# Altium footprint library Custom.PcbLib: 47 footprints (part 1 of 3)
Each footprint in its own frame and in the unit in brackets; x right, y up, seen from the top. Pads: shape width x height; smd on the part's side, far side on the other; paste and mask are expansions set on the pad; w line width, h text height; cw(c..) or ccw(c..) is an arc to the next point about the centre after c.
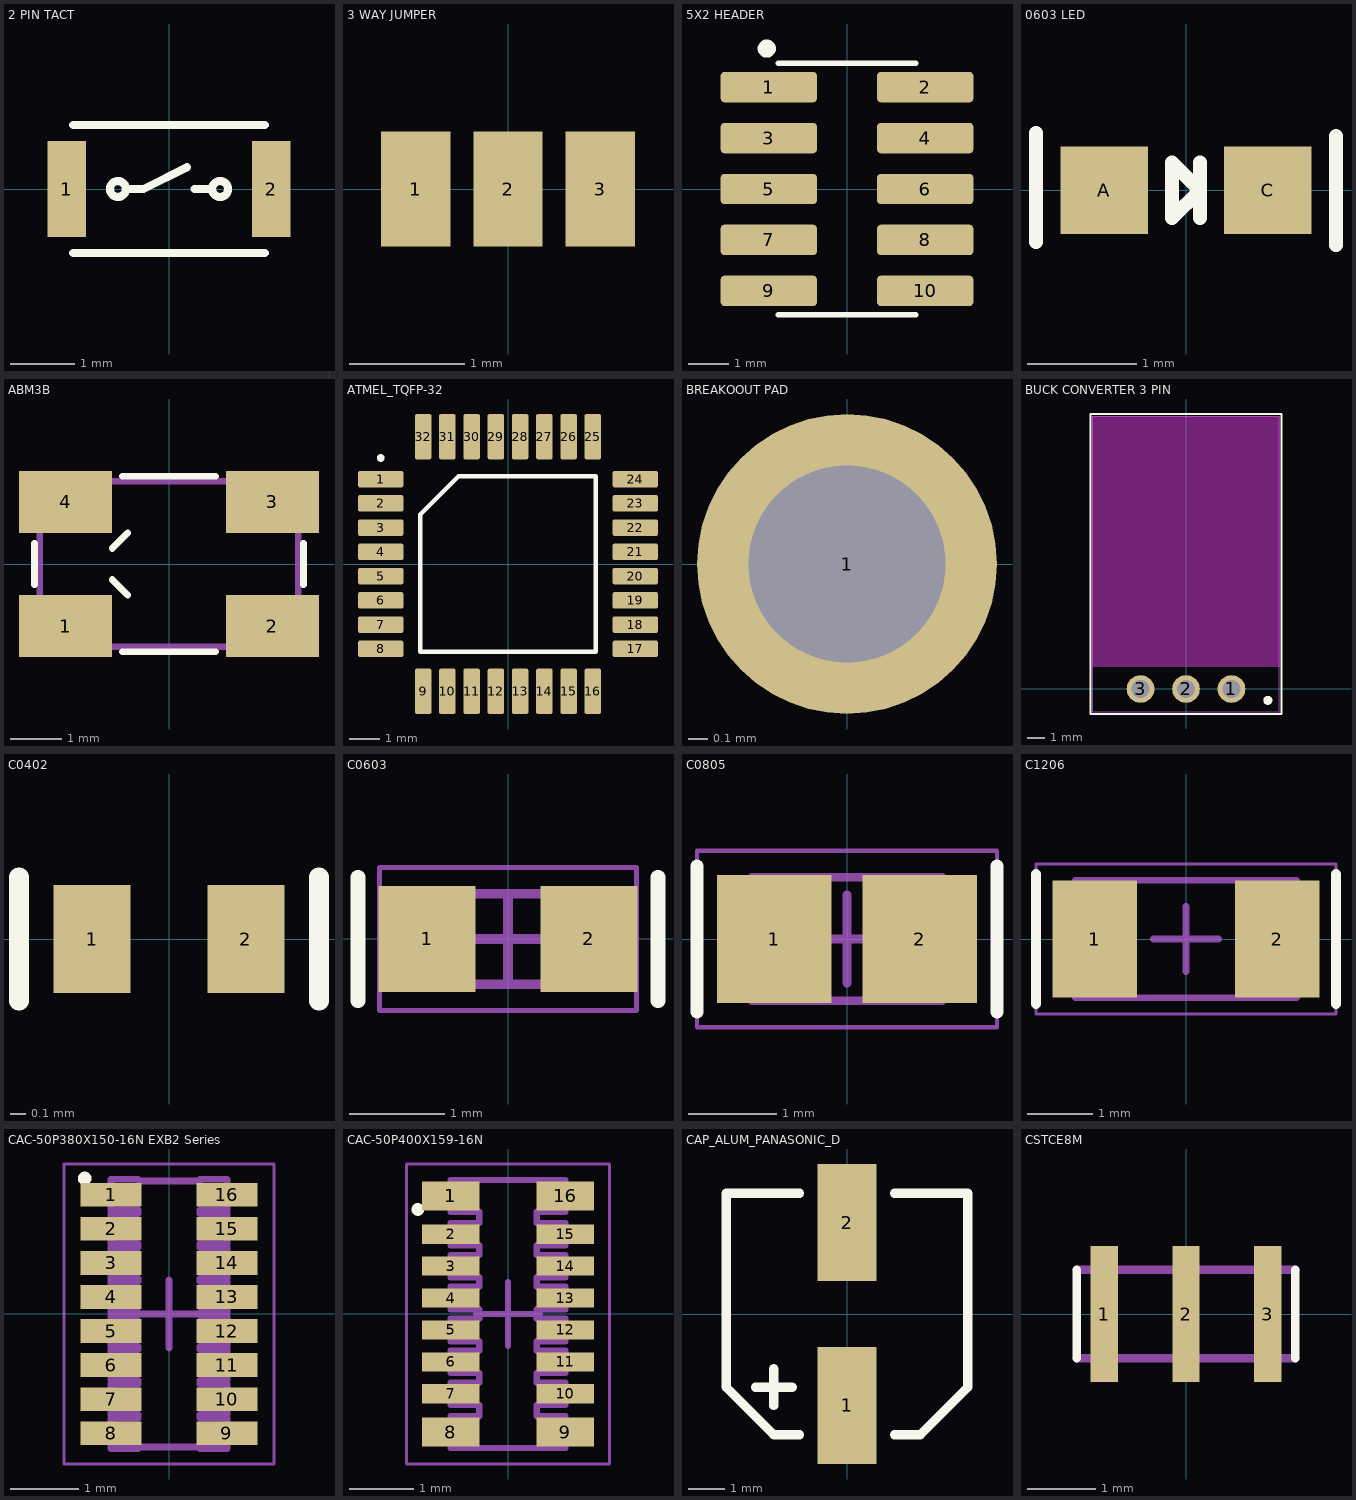
[diagram p0: the footprints below, top view; thin cyan lines are the x and y axes]

## 2 PIN TACT [mm] "KXT Series 2 Pin Tactile Switch"
height 0.58
pads (2):
  rect 0.6x1.5 smd: 1(-1.6,0) 2(1.6,0)
Top Overlay:
  circle w0.127: c0.8,0 r0.125
  circle w0.127: c-0.8,0 r0.125
  lines w0.127: -1.5,-1 1.5,-1 ; -1.5,1 1.5,1 ; -0.675,0 -0.4,0 0.28,0.34 ; 0.4,0 0.675,0

## 3 WAY JUMPER [mm] "3 Way solder bridge jumper"
pads (3):
  rect 0.6x1 smd: 1(-0.8,0) 2(0,0) 3(0.8,0)

## 5X2 HEADER [mm] "10 Position 5x2 1.27mm Pitch Male Header"
height 5.71
pads (10):
  rrect25% 2.4x0.76 smd: 1(-1.95,2.54) 2(1.95,2.54) 3(-1.95,1.27) 4(1.95,1.27) 5(-1.95,0) 6(1.95,0) 7(-1.95,-1.27) 8(1.95,-1.27) 9(-1.95,-2.54) 10(1.95,-2.54)
Top Overlay:
  circle w0.254: c-2,3.5 r0.1
  lines w0.127: -1.715,-3.135 1.715,-3.135 ; -1.715,3.135 1.715,3.135
3D body "60462.stp": height 4.67, standoff -0.01, extent -2.75,-3.175 2.75,3.175

## 0603 LED [mm] "LTST-C191KGKT SMD LED 0603 Footprint"
height 0.55
pads (2):
  rect 0.8x0.8 smd: A(-0.75,0) C(0.75,0)
Top Overlay:
  lines w0.127: -1.375,-0.475 -1.375,0.525 ; 0.127,-0.254 0.127,0.254 ; 1.375,-0.5 1.375,0.5 ; -0.127,-0.254 0.127,0 -0.127,0.254 -0.127,-0.254
3D body "User Library-LED_0603_WS.STEP": height 0.6, standoff 0, extent -0.8,-0.4 0.8,0.4

## ABM3B [mm] "4-SMD, No Lead (DFN, LCC)"
height 1.1
pads (4):
  rect 1.8x1.2 smd: 1(-2,-1.2) 2(2,-1.2) 3(2,1.2) 4(-2,1.2)
Top Overlay:
  lines w0.127: -2.6,-0.4 -2.6,0.4 ; -1.1,-0.3 -0.8,-0.6 ; -1.1,0.3 -0.8,0.6 ; -0.9,-1.7 0.9,-1.7 ; -0.9,1.7 0.9,1.7 ; 2.6,-0.4 2.6,0.4
Mechanical 13:
  lines w0.127: -2.5,-1.6 -2.5,1.6 2.5,1.6 2.5,-1.6 -2.5,-1.6
3D body "ABM3B.STEP": height 1.1, standoff -0.01, extent -2.5,-1.587 2.5,1.588

## ATMEL_TQFP-32 [mm]
pads (32):
  rrect25% 1.5x0.55 smd: 1(-4.2,2.8) 2(-4.2,2) 3(-4.2,1.2) 4(-4.2,0.4) 5(-4.2,-0.4) 6(-4.2,-1.2) 7(-4.2,-2) 8(-4.2,-2.8) 17(4.2,-2.8) 18(4.2,-2) 19(4.2,-1.2) 20(4.2,-0.4) 21(4.2,0.4) 22(4.2,1.2) 23(4.2,2) 24(4.2,2.8)
  rrect25% 0.55x1.5 smd: 9(-2.8,-4.2) 10(-2,-4.2) 11(-1.2,-4.2) 12(-0.4,-4.2) 13(0.4,-4.2) 14(1.2,-4.2) 15(2,-4.2) 16(2.8,-4.2) 25(2.8,4.2) 26(2,4.2) 27(1.2,4.2) 28(0.4,4.2) 29(-0.4,4.2) 30(-1.2,4.2) 31(-2,4.2) 32(-2.8,4.2)
Top Overlay:
  circle w0.254: c-4.2,3.5 r0
  lines w0.152: -2.891,-2.891 2.891,-2.891 ; -2.891,-2.891 -2.891,1.634 -1.634,2.891 2.891,2.891 ; 2.891,-2.891 2.891,2.891
3D body "User Library-tqfp32-0_8.step": height 1.2, standoff 0, extent -4.6,-4.599 4.599,4.6

## BREAKOOUT PAD [mil] "Simple 40mil breakout pad"
pads (1):
  round 61 hole 40: 1(0,0)

## BUCK CONVERTER 3 PIN [mil] "Murata OKI-78SR Series DC/DC Converter Regulator"
height 30
pads (3):
  round 61 hole 40: 1(100,0) 2(0,0) 3(-100,0)
Top Overlay:
  circle w10: c180,-25 r5
  lines w5: -210,-55 210,-55 210,605 -210,605 -210,-55
Keep-Out Layer:
  region: -206.69,600.39 206.69,600.39 206.69,49.21 -206.69,49.21
Mechanical 13:
  lines w2: -205,-50 -205,600 205,600 205,-50 -205,-50
3D body "User Library-OKI-78SR_Oriz.STEP": height 317.91, standoff -169.29, extent -204.73,-49.21 204.72,600.4

## C0402 [mm] "Ceramic capacitor 0402 imperial"
pads (2):
  rect 0.5x0.7 smd: 1(-0.5,0) 2(0.5,0)
Top Overlay:
  lines w0.127: -0.975,-0.4 -0.975,0.4 ; 0.975,-0.4 0.975,0.4
3D body "User Library-Capacitor 0402.step": height 0.49, standoff -0.01, extent -0.5,-0.25 0.5,0.25

## C0603 [mil] "Yageo Class 2 X7R 0603 0.8mm Ceramic Capacitor"
height 31.5
pads (2):
  rect 40x44 smd: 1(-33.46,0) 2(33.46,0)
Top Overlay:
  lines w6: -62.01,-25.59 -62.01,25.59 ; 62.01,-25.59 62.01,25.59
Mechanical 13:
  lines w3.94: -34.45,-18.7 -34.45,18.7 34.45,18.7 34.45,-18.7 -34.45,-18.7
Mechanical 15:
  lines w1.97: -53.15,-29.53 -53.15,29.53 53.15,29.53 53.15,-29.53 -53.15,-29.53
  lines w3.94: -18.7,0 18.7,0 ; 0,-18.7 0,18.7
3D body "User Library-CAPC1608X09.step": height 35.43, standoff 0, extent -31.49,-15.74 31.5,15.75

## C0805 [mm] "Yageo Class 2 X7R 0805 1.25mm Ceramic Capacitor"
height 1.25
pads (2):
  rect 1.3x1.45 smd: 1(-0.825,0) 2(0.825,0)
Top Overlay:
  lines w0.152: -1.7,-0.825 -1.7,0.825 ; 1.7,-0.825 1.7,0.825
Mechanical 13:
  lines w0.1: -1.075,-0.7 1.075,-0.7 1.075,0.7 -1.075,0.7 -1.075,-0.7
Mechanical 15:
  lines w0.05: -1.7,-1 1.7,-1 1.7,1 -1.7,1 -1.7,-1
  lines w0.1: -0.5,0 0.5,0 ; 0,-0.5 0,0.5
3D body "User Library-cap_0805-1.step": height 1.2, standoff 0, extent -1,-0.6 1,0.6

## C1206 [mm] "1206 Package Size Ceramic Capacitor"
height 1.8
pads (2):
  rect 1.3x1.8 smd: 1(-1.4,0) 2(1.4,0)
Top Overlay:
  lines w0.152: -2.3,-1 -2.3,1 ; 2.3,-1 2.3,1
Mechanical 13:
  lines w0.1: -1.7,-0.9 1.7,-0.9 1.7,0.9 -1.7,0.9 -1.7,-0.9
Mechanical 15:
  lines w0.05: -2.3,-1.15 2.3,-1.15 2.3,1.15 -2.3,1.15 -2.3,-1.15
  lines w0.1: -0.5,0 0.5,0 ; 0,-0.5 0,0.5
3D body: height 1.8, standoff 0, extent 1.2,-0.9 1.7,0.9
3D body: height 1.8, standoff 0, extent -1.7,-0.9 -1.2,0.9
3D body: height 1.8, standoff 0, extent -1.2,-0.9 1.2,0.9

## CAC-50P380X150-16N EXB2 Series [mm] "Chip Array, ConvexE, 16-Leads, Pitch 0.50mm,  Body 3.80x1.50mm,  IPC Medium Density"
height 0.6
pads (16):
  rect 0.9x0.35 smd: 1(-0.85,1.75) 2(-0.85,1.25) 3(-0.85,0.75) 4(-0.85,0.25) 5(-0.85,-0.25) 6(-0.85,-0.75) 7(-0.85,-1.25) 8(-0.85,-1.75) 9(0.85,-1.75) 10(0.85,-1.25) 11(0.85,-0.75) 12(0.85,-0.25) 13(0.85,0.25) 14(0.85,0.75) 15(0.85,1.25) 16(0.85,1.75)
Top Overlay:
  circle w0.1: c-1.237,1.988 r0.05
Mechanical 13:
  lines w0.1: -0.85,-1.975 -0.45,-1.975 -0.45,-1.95 0.45,-1.95 0.45,-1.975 0.85,-1.975 0.85,-1.525 0.45,-1.525 0.45,-1.475 0.85,-1.475 0.85,-1.025 0.45,-1.025 0.45,-0.975 0.85,-0.975 0.85,-0.525 0.45,-0.525 0.45,-0.475 0.85,-0.475 0.85,-0.025 0.45,-0.025 0.45,0.025 0.85,0.025 0.85,0.475 0.45,0.475 0.45,0.525 0.85,0.525 0.85,0.975 0.45,0.975 0.45,1.025 0.85,1.025 0.85,1.475 0.45,1.475 0.45,1.525 0.85,1.525 0.85,1.975 0.45,1.975 0.45,1.95 -0.45,1.95 -0.45,1.975 -0.85,1.975 -0.85,1.525 -0.45,1.525 -0.45,1.475 -0.85,1.475 -0.85,1.025 -0.45,1.025 -0.45,0.975 -0.85,0.975 -0.85,0.525 -0.45,0.525 -0.45,0.475 -0.85,0.475 -0.85,0.025 -0.45,0.025 -0.45,-0.025 -0.85,-0.025 -0.85,-0.475 -0.45,-0.475 -0.45,-0.525 -0.85,-0.525 -0.85,-0.975 -0.45,-0.975 -0.45,-1.025 -0.85,-1.025 -0.85,-1.475 -0.45,-1.475 -0.45,-1.525 -0.85,-1.525 -0.85,-1.975
Mechanical 15:
  lines w0.05: -1.54,-2.2 1.54,-2.2 1.54,2.2 -1.54,2.2 -1.54,-2.2
  lines w0.1: -0.5,0 0.5,0 ; 0,-0.5 0,0.5
3D body "User Library-YC248-1.STEP": height 0.45, standoff 0, extent -0.8,-2 0.8,2

## CAC-50P400X159-16N [mm] "YC248 Series Chip Array, 16-Leads, Pitch 0.50mm,  Body 4.00x1.60mm,  IPC Medium Density"
height 0.55
pads (16):
  rect 0.9x0.45 smd: 1(-0.9,1.85) 8(-0.9,-1.85) 9(0.9,-1.85) 16(0.9,1.85)
  rect 0.9x0.3 smd: 2(-0.9,1.25) 3(-0.9,0.75) 4(-0.9,0.25) 5(-0.9,-0.25) 6(-0.9,-0.75) 7(-0.9,-1.25) 10(0.9,-1.25) 11(0.9,-0.75) 12(0.9,-0.25) 13(0.9,0.25) 14(0.9,0.75) 15(0.9,1.25)
Top Overlay:
  circle w0.1: c-1.412,1.638 r0.05
Mechanical 13:
  lines w0.1: -0.9,-2.1 -0.9,-1.6 -0.45,-1.6 -0.45,-1.425 -0.9,-1.425 -0.9,-1.075 -0.45,-1.075 -0.45,-0.925 -0.9,-0.925 -0.9,-0.575 -0.45,-0.575 -0.45,-0.425 -0.9,-0.425 -0.9,-0.075 -0.45,-0.075 -0.45,0.075 -0.9,0.075 -0.9,0.425 -0.45,0.425 -0.45,0.575 -0.9,0.575 -0.9,0.925 -0.45,0.925 -0.45,1.075 -0.9,1.075 -0.9,1.425 -0.45,1.425 -0.45,1.6 -0.9,1.6 -0.9,2.1 0.9,2.1 0.9,1.6 0.45,1.6 0.45,1.425 0.9,1.425 0.9,1.075 0.45,1.075 0.45,0.925 0.9,0.925 0.9,0.575 0.45,0.575 0.45,0.425 0.9,0.425 0.9,0.075 0.45,0.075 0.45,-0.075 0.9,-0.075 0.9,-0.425 0.45,-0.425 0.45,-0.575 0.9,-0.575 0.9,-0.925 0.45,-0.925 0.45,-1.075 0.9,-1.075 0.9,-1.425 0.45,-1.425 0.45,-1.6 0.9,-1.6 0.9,-2.1 -0.9,-2.1
Mechanical 15:
  lines w0.05: -1.59,-2.35 -1.59,2.35 1.59,2.35 1.59,-2.35 -1.59,-2.35
  lines w0.1: -0.5,0 0.5,0 ; 0,-0.5 0,0.5
3D body "User Library-YC248-1.STEP": height 0.45, standoff 0, extent -0.8,-2 0.8,2

## CAP_ALUM_PANASONIC_D [mm] "Panasonic SMD electrolytic capacitor size code D"
height 5.8
pads (2):
  rect 1.6x3.2 smd: 1(0,-2.5) 2(0,2.5)
Top Overlay:
  lines w0.254: -2.5,-2 -1.5,-2 ; -2,-2.5 -2,-1.5 ; -1.3,-3.3 -2,-3.3 -3.3,-2 -3.3,3.3 -1.3,3.3 ; 1.3,-3.3 2,-3.3 3.3,-2 3.3,3.3 1.3,3.3
3D body "User Library-CAP SMD SVP 6_3x5_9.STEP": height 5.9, standoff 0, extent -3.3,-3.65 3.3,3.65

## CSTCE8M [mm] "CSTCE8M"
pads (3):
  rect 0.4x2 smd: 1(-1.2,0) 2(0,0) 3(1.2,0)
Top Overlay:
  lines w0.127: -1.6,-0.65 -1.6,0.65 ; 1.6,-0.65 1.6,0.65
Mechanical 16:
  lines w0.127: -1.6,-0.65 1.6,-0.65 ; -1.6,0.65 1.6,0.65